# EAGLE library part USB2517 (library usb)
USB 7-port host controller
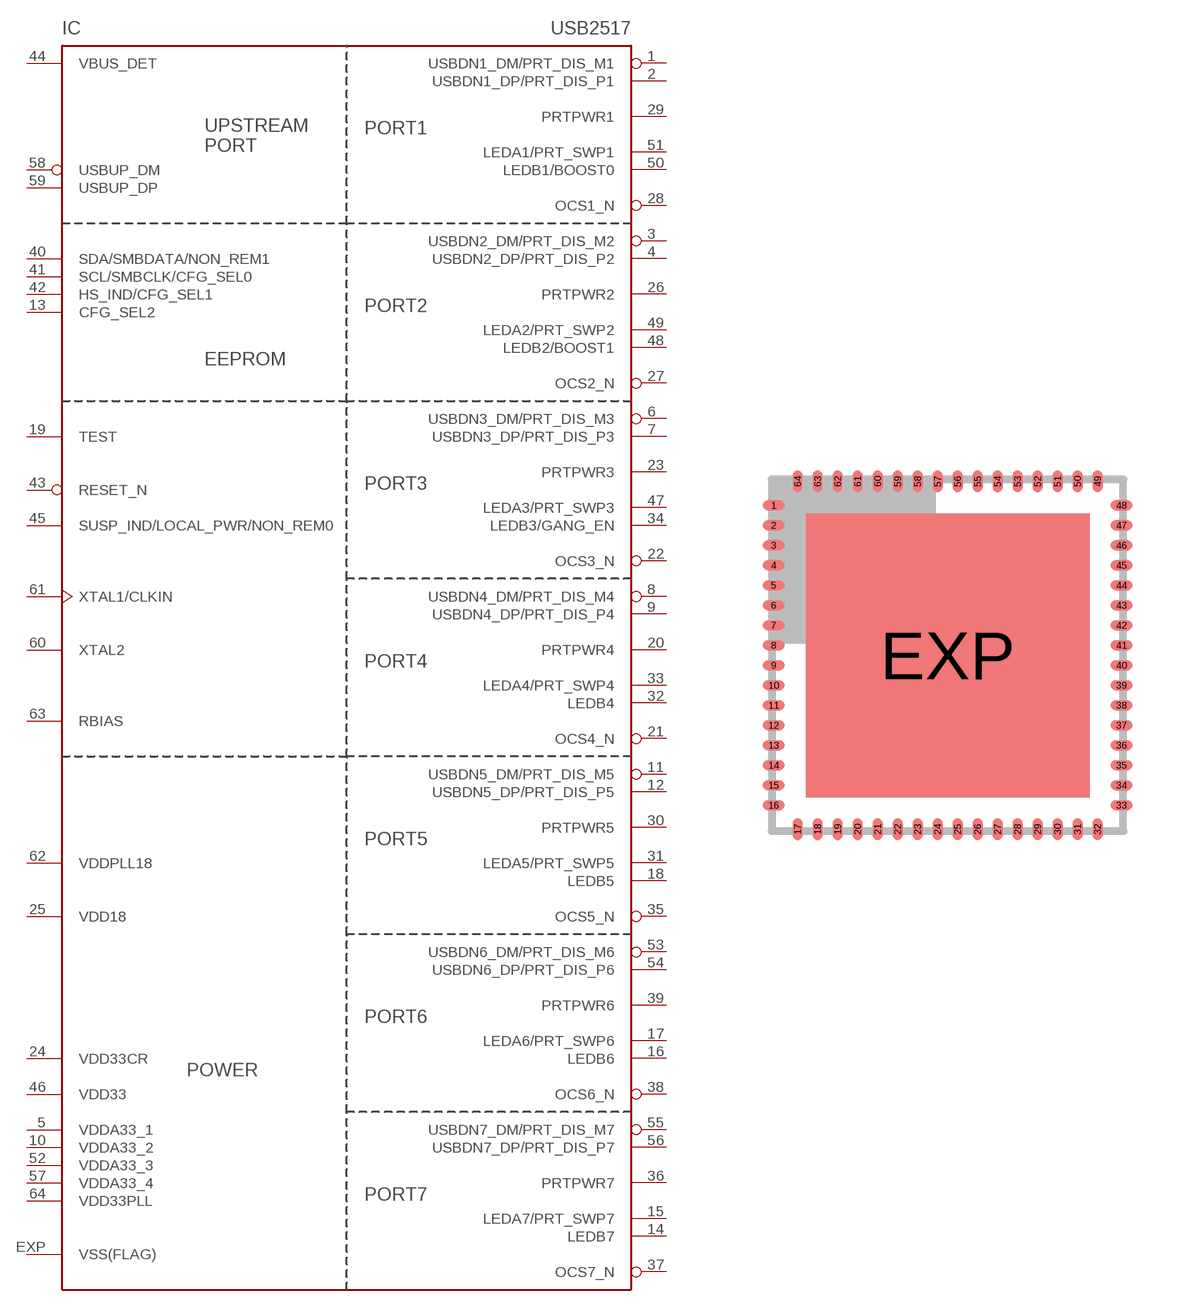
[diagram p0: symbol with the pads of QFN64-9X9; footprint QFN64-9X9]

Designator prefix IC

## USB2517  [QFN64-9X9]
1  USBDN1_DM/PRT_DIS_M1
2  USBDN1_DP/PRT_DIS_P1
3  USBDN2_DM/PRT_DIS_M2
4  USBDN2_DP/PRT_DIS_P2
5  VDDA33_1  pwr
6  USBDN3_DM/PRT_DIS_M3
7  USBDN3_DP/PRT_DIS_P3
8  USBDN4_DM/PRT_DIS_M4
9  USBDN4_DP/PRT_DIS_P4
10  VDDA33_2  pwr
11  USBDN5_DM/PRT_DIS_M5
12  USBDN5_DP/PRT_DIS_P5
13  CFG_SEL2  in
14  LEDB7
15  LEDA7/PRT_SWP7
16  LEDB6
17  LEDA6/PRT_SWP6
18  LEDB5
19  TEST  in
20  PRTPWR4  out
21  OCS4_N  in
22  OCS3_N  in
23  PRTPWR3  out
24  VDD33CR  pwr
25  VDD18  pwr
26  PRTPWR2  out
27  OCS2_N  in
28  OCS1_N  in
29  PRTPWR1  out
30  PRTPWR5  out
31  LEDA5/PRT_SWP5
32  LEDB4
33  LEDA4/PRT_SWP4
34  LEDB3/GANG_EN
35  OCS5_N  in
36  PRTPWR7  out
37  OCS7_N  in
38  OCS6_N  in
39  PRTPWR6  out
40  SDA/SMBDATA/NON_REM1  oc
41  SCL/SMBCLK/CFG_SEL0  oc
42  HS_IND/CFG_SEL1
43  RESET_N  in
44  VBUS_DET
45  SUSP_IND/LOCAL_PWR/NON_REM0
46  VDD33  pwr
47  LEDA3/PRT_SWP3
48  LEDB2/BOOST1
49  LEDA2/PRT_SWP2
50  LEDB1/BOOST0
51  LEDA1/PRT_SWP1
52  VDDA33_3  pwr
53  USBDN6_DM/PRT_DIS_M6
54  USBDN6_DP/PRT_DIS_P6
55  USBDN7_DM/PRT_DIS_M7
56  USBDN7_DP/PRT_DIS_P7
57  VDDA33_4  pwr
58  USBUP_DM
59  USBUP_DP
60  XTAL2
61  XTAL1/CLKIN
62  VDDPLL18  pwr
63  RBIAS  pas
64  VDD33PLL  pwr
EXP  VSS(FLAG)  sup

## Footprint QFN64-9X9 (pad centres in mm)
QFN64-9X9 Source: http://www.gennum.com/video/pdf/36655DOC.pdf
smd 0.55 x 0.25: 1 -4.35,3.75; 2 -4.35,3.25; 3 -4.35,2.75; 4 -4.35,2.25; 5 -4.35,1.75; 6 -4.35,1.25; 7 -4.35,0.75; 8 -4.35,0.25; 9 -4.35,-0.25; 10 -4.35,-0.75; 11 -4.35,-1.25; 12 -4.35,-1.75; 13 -4.35,-2.25; 14 -4.35,-2.75; 15 -4.35,-3.25; 16 -4.35,-3.75; 33 4.35,-3.75; 34 4.35,-3.25; 35 4.35,-2.75; 36 4.35,-2.25; 37 4.35,-1.75; 38 4.35,-1.25; 39 4.35,-0.75; 40 4.35,-0.25; 41 4.35,0.25; 42 4.35,0.75; 43 4.35,1.25; 44 4.35,1.75; 45 4.35,2.25; 46 4.35,2.75; 47 4.35,3.25; 48 4.35,3.75
smd 0.25 x 0.55: 17 -3.75,-4.35; 18 -3.25,-4.35; 19 -2.75,-4.35; 20 -2.25,-4.35; 21 -1.75,-4.35; 22 -1.25,-4.35; 23 -0.75,-4.35; 24 -0.25,-4.35; 25 0.25,-4.35; 26 0.75,-4.35; 27 1.25,-4.35; 28 1.75,-4.35; 29 2.25,-4.35; 30 2.75,-4.35; 31 3.25,-4.35; 32 3.75,-4.35; 49 3.75,4.35; 50 3.25,4.35; 51 2.75,4.35; 52 2.25,4.35; 53 1.75,4.35; 54 1.25,4.35; 55 0.75,4.35; 56 0.25,4.35; 57 -0.25,4.35; 58 -0.75,4.35; 59 -1.25,4.35; 60 -1.75,4.35; 61 -2.25,4.35; 62 -2.75,4.35; 63 -3.25,4.35; 64 -3.75,4.35
smd 7.1 x 7.1: EXP 0,0